# Altium schematic symbol library Inductors.SchLib: 30 symbols
Pins are listed as number, name and electrical type; pins without a type are passive.

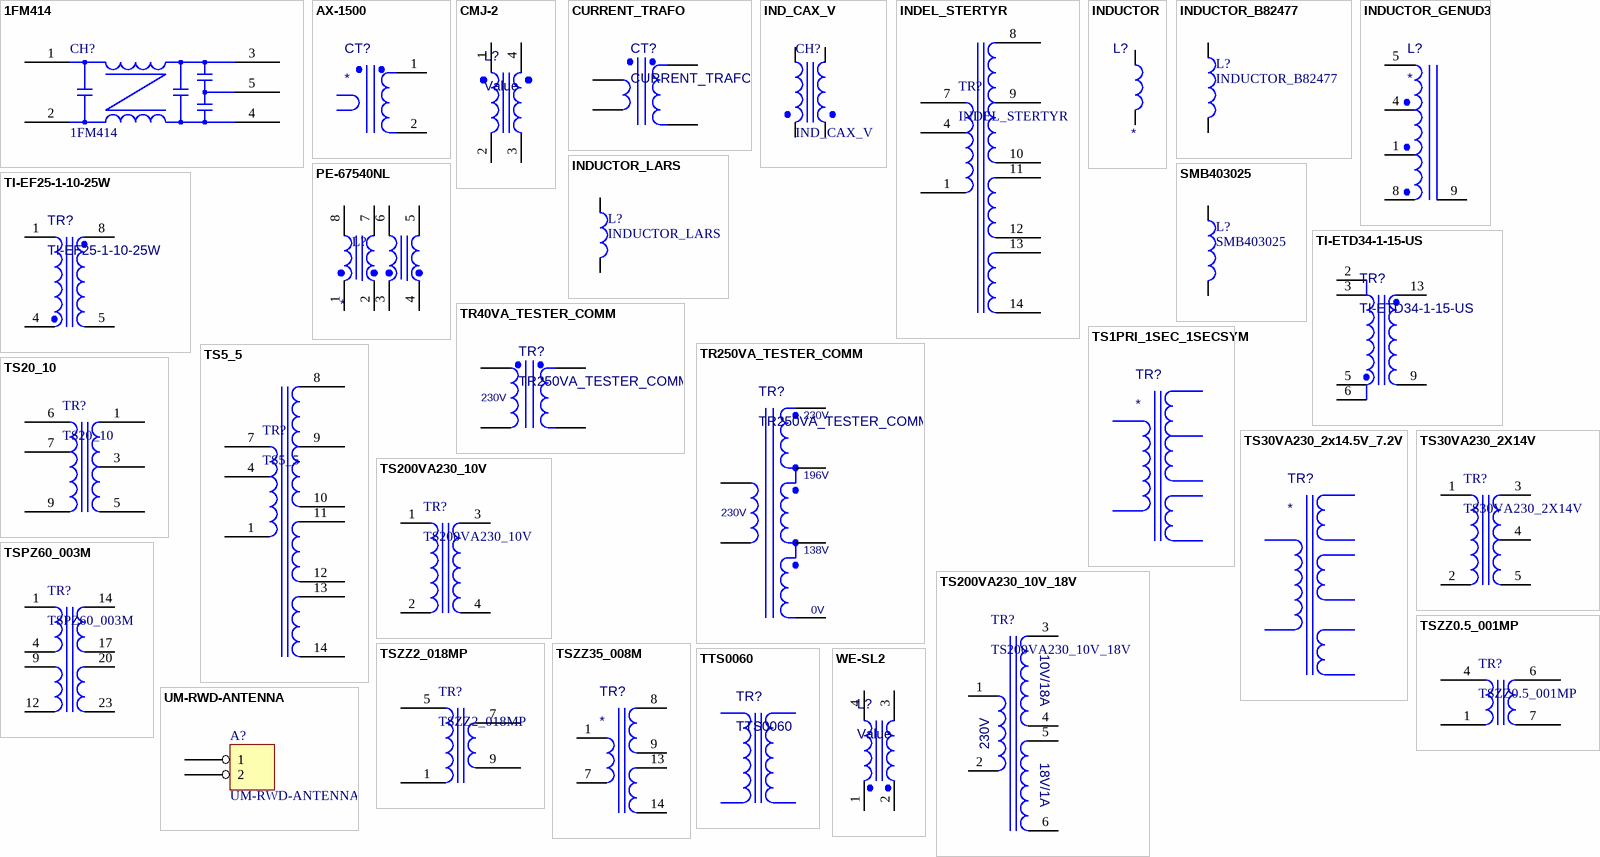
[diagram p0: symbols 1FM414 to WE-SL2]

## 1FM414
designator CH?
Value: 1FM414
pins: 1 IN1, 2 IN2, 3 OUT2, 4 OUT1, 5

## AX-1500
designator CT?
Value: *
pins: 1, 2

## CMJ-2
designator L?, comment Value
Value: Value
pins: 1 IN1, 2 IN2, 3 OUT2, 4 OUT1

## CURRENT_TRAFO
designator CT?
Value: CURRENT_TRAFO

## IND_CAX_V
designator CH?
Value: IND_CAX_V
pins: 1 IN1, 2 IN1, 3 IN2, 4 IN2, 5 OUT2, 6 OUT2, 7 OUT1, 8 OUT1

## INDEL_STERTYR
designator TR?
Value: INDEL_STERTYR
pins: 1, 4, 7, 8, 9, 10, 11, 12, 13, 14

## INDUCTOR
designator L?  (value not drawn)
Value: INDUCTOR; OtherParams: *
pins: 1, 2

## INDUCTOR_B82477
designator L?
Value: INDUCTOR_B82477
footprint B82477
pins: 1, 2

## INDUCTOR_GENUD3
designator L?
Value: *
pins: 1, 4, 5, 8, 9

## INDUCTOR_LARS
designator L?
Value: INDUCTOR_LARS
pins: 1, 2

## PE-67540NL
designator L?  (value not drawn)
Value: PE-67540NL; OtherParams: *
pins: 1, 2, 3, 4, 5, 6, 7, 8

## SMB403025
designator L?
Value: SMB403025
footprint SMB403025 (Footprint not found)
pins: 1, 2

## TI-EF25-1-10-25W
designator TR?
Value: TI-EF25-1-10-25W
pins: 1, 4, 5, 8

## TI-ETD34-1-15-US
designator TR?
Value: TI-ETD34-1-15-US
pins: 2, 3, 5, 6, 9, 13

## TR40VA_TESTER_COMM
designator TR?, comment TR250VA_TESTER_COMM
Value: TR250VA_TESTER_COMM
text: 230V

## TR250VA_TESTER_COMM
designator TR?
Value: TR250VA_TESTER_COMM
text: 230V; 196V; 138V; 0V

## TS1PRI_1SEC_1SECSYM
designator TR?
Value: *

## TS5_5
designator TR?
Value: TS5_5
pins: 1, 4, 7, 8, 9, 10, 11, 12, 13, 14

## TS20_10
designator TR?
Value: TS20_10
pins: 1, 3, 5, 6, 7, 9

## TS30VA230_2x14.5V_7.2V
designator TR?
Value: *

## TS30VA230_2X14V
designator TR?
Value: TS30VA230_2X14V
pins: 1, 2, 3, 4, 5

## TS200VA230_10V
designator TR?
Value: TS200VA230_10V
pins: 1, 2, 3, 4

## TS200VA230_10V_18V
designator TR?
Value: TS200VA230_10V_18V
pins: 1, 2, 3, 4, 5, 6
text: 10V/18A; 230V; 18V/1A

## TSPZ60_003M
designator TR?
Value: TSPZ60_003M
pins: 1, 4, 9, 12, 14, 17, 20, 23

## TSZZ0.5_001MP
designator TR?
Value: TSZZ0.5_001MP
pins: 1, 4, 6, 7

## TSZZ2_018MP
designator TR?
Value: TSZZ2_018MP
pins: 1, 5, 7, 9

## TSZZ35_008M
designator TR?
Value: *
pins: 1, 7, 8, 9, 13, 14

## TTS0060
designator TR?
Value: TTS0060
pins: 1 hidden

## UM-RWD-ANTENNA
designator A?
Value: UM-RWD-ANTENNA
footprint UM-RWD-ANTENNA (Footprint not found)
pins: 1, 2

## WE-SL2
designator L?, comment Value
Value: Value
pins: 1 IN1, 2 IN2, 3 OUT2, 4 OUT1